# EAGLE library part AMP_SFW16R-2STE1LF (library components)
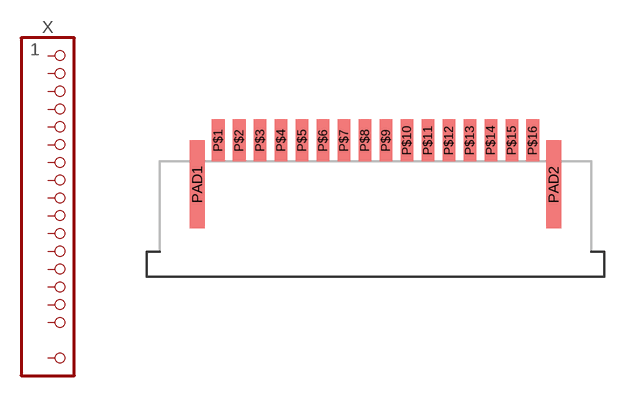
[diagram p0: symbol with the pads of AMP_SFW16R-2STE1LF; footprint AMP_SFW16R-2STE1LF]

Designator prefix X

## AMP_SFW16R-2STE1LF  [AMP_SFW16R-2STE1LF]
P$1  1  pas
P$2  2  pas
P$3  3  pas
P$4  4  pas
P$5  5  pas
P$6  6  pas
P$7  7  pas
P$8  8  pas
P$9  9  pas
P$10  10  pas
P$11  11  pas
P$12  12  pas
P$13  13  pas
P$14  14  pas
P$15  15  pas
P$16  16  pas
PAD1  17  pas
PAD2  17  pas

## Footprint AMP_SFW16R-2STE1LF (pad centres in mm)
smd 0.6 x 2: P$1 -7.5,0; P$2 -6.5,0; P$3 -5.5,0; P$4 -4.5,0; P$5 -3.5,0; P$6 -2.5,0; P$7 -1.5,0; P$8 -0.5,0; P$9 0.5,0; P$10 1.5,0; P$11 2.5,0; P$12 3.5,0; P$13 4.5,0; P$14 5.5,0; P$15 6.5,0; P$16 7.5,0
smd 0.7 x 4.2: PAD1 -8.5,-2.1; PAD2 8.5,-2.1